# Altium integrated library Resistors.IntLib: 4954 symbols (part 19 of 32)
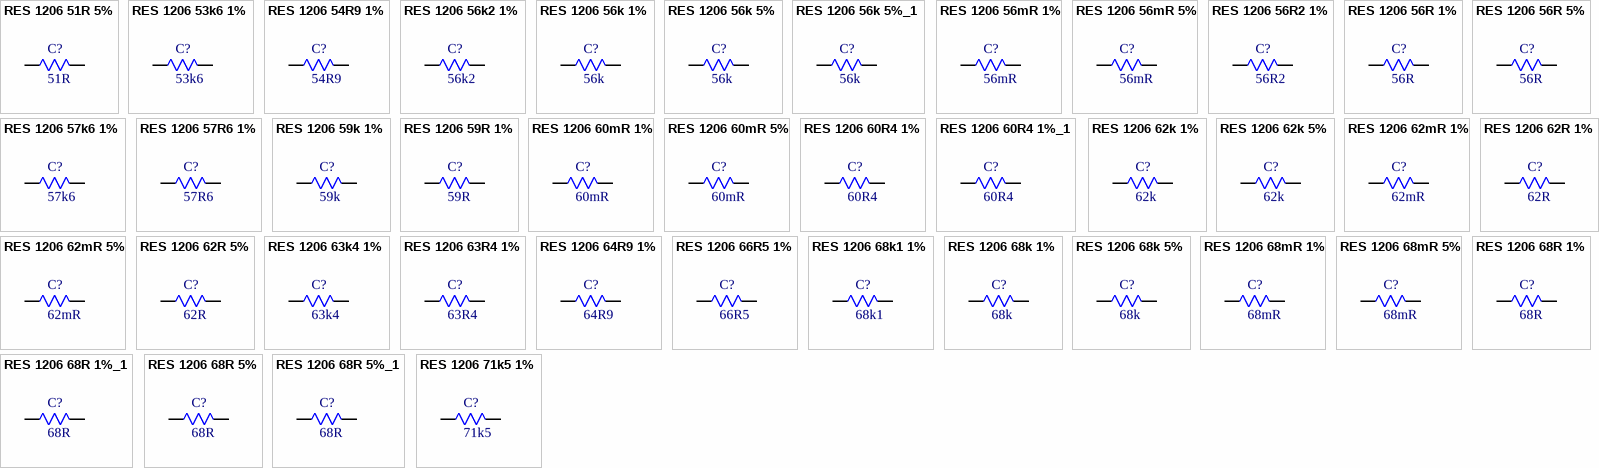
[diagram p141: symbols RES 1206 51R 5% to RES 1206 71k5 1%]

## RES 1206 68R 5%_1
designator C?, comment 68R
250mW 68R 200V Thick Film Resistor 100ppm/â„ƒ 5% 1206 Chip Resistor - Surface Mount RoHS; Manufacturer: FOJAN; Manufacturer Part Number: FRR1206J680 TS; Supplier: LCSC; Supplier Part Number: C49196854; Resistance: 68R; Tolerance: 5%; Voltage Rating: 200V; Power: 250mW
footprint RES SMD 1206
pins: 1, 2

## RES 1206 71k5 1%
designator C?, comment 71k5
71.5kR 1% 250mW 1206 Thick Film Resistor; Manufacturer: FOJAN; Manufacturer Part Number: FRC1206F7152TS; Voltage Rating: 200V; Supplier: LCSC; Supplier Part Number: C5126183; Resistance: 71k5; Tolerance: 1%; Power: 250mW
footprint RES SMD 1206
pins: 1, 2

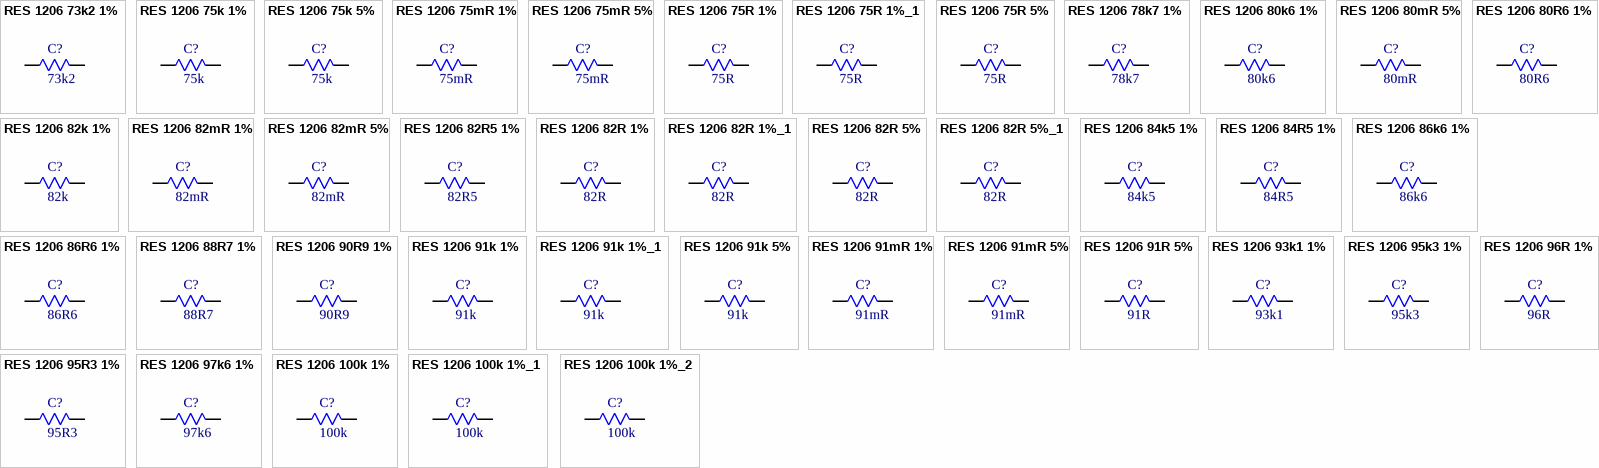
[diagram p72: symbols RES 1206 73k2 1% to RES 1206 100k 1%_2]

## RES 1206 73k2 1%
designator C?, comment 73k2
250mW 73.2kR 200V Thick Film Resistor 100ppm/â„ƒ 1% 1206 Chip Resistor - Surface Mount RoHS; Manufacturer: FOJAN; Manufacturer Part Number: FRC1206F7322TS; Supplier: LCSC; Supplier Part Number: C49196889; Resistance: 73k2; Tolerance: 1%; Voltage Rating: 200V; Power: 250mW
footprint RES SMD 1206
pins: 1, 2

## RES 1206 75k 1%
designator C?, comment 75k
75kR 1% 250mW 1206 Thick Film Resistor; Manufacturer: FOJAN; Manufacturer Part Number: FRC1206F7502TS; Voltage Rating: 200V; Supplier: LCSC; Supplier Part Number: C2933753; Resistance: 75k; Tolerance: 1%; Power: 250mW
footprint RES SMD 1206
pins: 1, 2

## RES 1206 75k 5%
designator C?, comment 75k
75kR 5% 250mW 1206 Thick Film Resistor; Manufacturer: FOJAN; Manufacturer Part Number: FRC1206J753TS; Voltage Rating: 200V; Supplier: LCSC; Supplier Part Number: C2930384; Resistance: 75k; Tolerance: 5%; Power: 250mW
footprint RES SMD 1206
pins: 1, 2

## RES 1206 75mR 1%
designator C?, comment 75mR
250mW 75mR Thick Film Resistor 600ppm/â„ƒ 1% 1206 Chip Resistor - Surface Mount RoHS; Manufacturer: FOJAN; Manufacturer Part Number: FRL1206FR075TS; Supplier: LCSC; Supplier Part Number: C7467621; Resistance: 75mR; Tolerance: 1%; Power: 250mW
footprint RES SMD 1206
pins: 1, 2

## RES 1206 75mR 5%
designator C?, comment 75mR
75mR 5% 250mW 1206 Thick Film Resistor; Manufacturer: FOJAN; Manufacturer Part Number: FRL1206JR075TS; Voltage Rating: 500V; Supplier: LCSC; Supplier Part Number: C3000701; Resistance: 75mR; Tolerance: 5%; Power: 250mW
footprint RES SMD 1206
pins: 1, 2

## RES 1206 75R 1%
designator C?, comment 75R
75R 1% 250mW 1206 Thick Film Resistor; Manufacturer: FOJAN; Manufacturer Part Number: FRC1206F75R0TS; Voltage Rating: 200V; Supplier: LCSC; Supplier Part Number: C2907393; Resistance: 75R; Tolerance: 1%; Power: 250mW
footprint RES SMD 1206
pins: 1, 2

## RES 1206 75R 1%_1
designator C?, comment 75R
75R 250mW 200V Thick Film Resistor 100ppm/â„ƒ 1% 1206 Chip Resistor - Surface Mount RoHS; Manufacturer: FOJAN; Manufacturer Part Number: FRQ1206F75R0TS; Supplier: LCSC; Supplier Part Number: C48533723; Resistance: 75R; Tolerance: 1%; Voltage Rating: 200V; Power: 250mW
footprint RES SMD 1206
pins: 1, 2

## RES 1206 75R 5%
designator C?, comment 75R
75R 5% 250mW 1206 Thick Film Resistor; Manufacturer: FOJAN; Manufacturer Part Number: FRC1206J750 TS; Voltage Rating: 200V; Supplier: LCSC; Supplier Part Number: C2907535; Resistance: 75R; Tolerance: 5%; Power: 250mW
footprint RES SMD 1206
pins: 1, 2

## RES 1206 78k7 1%
designator C?, comment 78k7
78.7kR 1% 250mW 1206 Thick Film Resistor; Manufacturer: FOJAN; Manufacturer Part Number: FRC1206F7872TS; Voltage Rating: 200V; Supplier: LCSC; Supplier Part Number: C2999558; Resistance: 78k7; Tolerance: 1%; Power: 250mW
footprint RES SMD 1206
pins: 1, 2

## RES 1206 80k6 1%
designator C?, comment 80k6
80.6kR 1% 250mW 1206 Thick Film Resistor; Manufacturer: FOJAN; Manufacturer Part Number: FRC1206F8062TS; Voltage Rating: 200V; Supplier: LCSC; Supplier Part Number: C3000534; Resistance: 80k6; Tolerance: 1%; Power: 250mW
footprint RES SMD 1206
pins: 1, 2

## RES 1206 80mR 5%
designator C?, comment 80mR
80mR 5% 250mW 1206 Thick Film Resistor; Manufacturer: FOJAN; Manufacturer Part Number: FRL1206JR080TS; Voltage Rating: 500V; Supplier: LCSC; Supplier Part Number: C5204045; Resistance: 80mR; Tolerance: 5%; Power: 250mW
footprint RES SMD 1206
pins: 1, 2

## RES 1206 80R6 1%
designator C?, comment 80R6
80.6R 1% 250mW 1206 Thick Film Resistor; Manufacturer: FOJAN; Manufacturer Part Number: FRC1206F80R6TS; Voltage Rating: 200V; Supplier: LCSC; Supplier Part Number: C5204024; Resistance: 80R6; Tolerance: 1%; Power: 250mW
footprint RES SMD 1206
pins: 1, 2

## RES 1206 82k 1%
designator C?, comment 82k
82kR 1% 250mW 1206 Thick Film Resistor; Manufacturer: FOJAN; Manufacturer Part Number: FRC1206F8202TS; Voltage Rating: 200V; Supplier: LCSC; Supplier Part Number: C2960747; Resistance: 82k; Tolerance: 1%; Power: 250mW
footprint RES SMD 1206
pins: 1, 2

## RES 1206 82mR 1%
designator C?, comment 82mR
82mR 250mW Thick Film Resistor 600ppm/â„ƒ 1% 1206 Chip Resistor - Surface Mount RoHS; Manufacturer: FOJAN; Manufacturer Part Number: FRL1206FR082TS; Supplier: LCSC; Supplier Part Number: C7467646; Resistance: 82mR; Tolerance: 1%; Power: 250mW
footprint RES SMD 1206
pins: 1, 2

## RES 1206 82mR 5%
designator C?, comment 82mR
82mR 5% 250mW 1206 Thick Film Resistor; Manufacturer: FOJAN; Manufacturer Part Number: FRL1206JR082TS; Voltage Rating: 500V; Supplier: LCSC; Supplier Part Number: C2960700; Resistance: 82mR; Tolerance: 5%; Power: 250mW
footprint RES SMD 1206
pins: 1, 2

## RES 1206 82R5 1%
designator C?, comment 82R5
82.5R 1% 250mW 1206 Thick Film Resistor; Manufacturer: FOJAN; Manufacturer Part Number: FRC1206F82R5TS; Voltage Rating: 200V; Supplier: LCSC; Supplier Part Number: C2999497; Resistance: 82R5; Tolerance: 1%; Power: 250mW
footprint RES SMD 1206
pins: 1, 2

## RES 1206 82R 1%
designator C?, comment 82R
82R 1% 500mW 1206 Thick Film Resistor; Manufacturer: FOJAN; Manufacturer Part Number: FRP1206F82R0TS; Voltage Rating: 200V; Supplier: LCSC; Supplier Part Number: C5713421; Resistance: 82R; Tolerance: 1%; Power: 500mW
footprint RES SMD 1206
pins: 1, 2

## RES 1206 82R 1%_1
designator C?, comment 82R
82R 1% 250mW 1206 Thick Film Resistor; Manufacturer: FOJAN; Manufacturer Part Number: FRC1206F82R0TS; Voltage Rating: 200V; Supplier: LCSC; Supplier Part Number: C2933761; Resistance: 82R; Tolerance: 1%; Power: 250mW
footprint RES SMD 1206
pins: 1, 2

## RES 1206 82R 5%
designator C?, comment 82R
82R 5% 250mW 1206 Thick Film Resistor; Manufacturer: FOJAN; Manufacturer Part Number: FRC1206J820 TS; Voltage Rating: 200V; Supplier: LCSC; Supplier Part Number: C2907540; Resistance: 82R; Tolerance: 5%; Power: 250mW
footprint RES SMD 1206
pins: 1, 2

## RES 1206 82R 5%_1
designator C?, comment 82R
82R 5% 250mW 1206 Thick Film Resistor; Manufacturer: FOJAN; Manufacturer Part Number: FRD1206J820TS; Voltage Rating: 200V; Supplier: LCSC; Supplier Part Number: C2930387; Resistance: 82R; Tolerance: 5%; Power: 250mW
footprint RES SMD 1206
pins: 1, 2

## RES 1206 84k5 1%
designator C?, comment 84k5
84.5kR 1% 250mW 1206 Thick Film Resistor; Manufacturer: FOJAN; Manufacturer Part Number: FRC1206F8452TS; Voltage Rating: 200V; Supplier: LCSC; Supplier Part Number: C42372185; Resistance: 84k5; Tolerance: 1%; Power: 250mW
footprint RES SMD 1206
pins: 1, 2

## RES 1206 84R5 1%
designator C?, comment 84R5
84.5R 1% 250mW 1206 Thick Film Resistor; Manufacturer: FOJAN; Manufacturer Part Number: FRC1206F84R5TS; Voltage Rating: 200V; Supplier: LCSC; Supplier Part Number: C2933762; Resistance: 84R5; Tolerance: 1%; Power: 250mW
footprint RES SMD 1206
pins: 1, 2

## RES 1206 86k6 1%
designator C?, comment 86k6
86.6kR 1% 250mW 1206 Thick Film Resistor; Manufacturer: FOJAN; Manufacturer Part Number: FRC1206F8662TS; Voltage Rating: 200V; Supplier: LCSC; Supplier Part Number: C2933763; Resistance: 86k6; Tolerance: 1%; Power: 250mW
footprint RES SMD 1206
pins: 1, 2

## RES 1206 86R6 1%
designator C?, comment 86R6
86.6R 1% 250mW 1206 Thick Film Resistor; Manufacturer: FOJAN; Manufacturer Part Number: FRC1206F86R6TS; Voltage Rating: 200V; Supplier: LCSC; Supplier Part Number: C5126111; Resistance: 86R6; Tolerance: 1%; Power: 250mW
footprint RES SMD 1206
pins: 1, 2

## RES 1206 88R7 1%
designator C?, comment 88R7
88.7R 1% 250mW 1206 Thick Film Resistor; Manufacturer: FOJAN; Manufacturer Part Number: FRC1206F88R7TS; Voltage Rating: 200V; Supplier: LCSC; Supplier Part Number: C3000535; Resistance: 88R7; Tolerance: 1%; Power: 250mW
footprint RES SMD 1206
pins: 1, 2

## RES 1206 90R9 1%
designator C?, comment 90R9
90.9R 1% 250mW 1206 Thick Film Resistor; Manufacturer: FOJAN; Manufacturer Part Number: FRC1206F90R9TS; Voltage Rating: 200V; Supplier: LCSC; Supplier Part Number: C3000537; Resistance: 90R9; Tolerance: 1%; Power: 250mW
footprint RES SMD 1206
pins: 1, 2

## RES 1206 91k 1%
designator C?, comment 91k
91kR 1% 250mW 1206 Thick Film Resistor; Manufacturer: FOJAN; Manufacturer Part Number: FRC1206F9102TS; Voltage Rating: 200V; Supplier: LCSC; Supplier Part Number: C2933767; Resistance: 91k; Tolerance: 1%; Power: 250mW
footprint RES SMD 1206
pins: 1, 2

## RES 1206 91k 1%_1
designator C?, comment 91k
91kR 500mW 200V Thick Film Resistor 1% 1206 Chip Resistor - Surface Mount RoHS; Manufacturer: FOJAN; Manufacturer Part Number: FRP1206F9102TS; Supplier: LCSC; Supplier Part Number: C51048268; Resistance: 91k; Tolerance: 1%; Voltage Rating: 200V; Power: 500mW
footprint RES SMD 1206
pins: 1, 2

## RES 1206 91k 5%
designator C?, comment 91k
91kR 5% 250mW 1206 Thick Film Resistor; Manufacturer: FOJAN; Manufacturer Part Number: FRC1206J913 TS; Voltage Rating: 200V; Supplier: LCSC; Supplier Part Number: C2933797; Resistance: 91k; Tolerance: 5%; Power: 250mW
footprint RES SMD 1206
pins: 1, 2

## RES 1206 91mR 1%
designator C?, comment 91mR
91mR 1% 250mW 1206 Thick Film Resistor; Manufacturer: FOJAN; Manufacturer Part Number: FRL1206FR091TS; Voltage Rating: 500V; Supplier: LCSC; Supplier Part Number: C5159740; Resistance: 91mR; Tolerance: 1%; Power: 250mW
footprint RES SMD 1206
pins: 1, 2

## RES 1206 91mR 5%
designator C?, comment 91mR
91mR 5% 250mW 1206 Thick Film Resistor; Manufacturer: FOJAN; Manufacturer Part Number: FRL1206JR091TS; Voltage Rating: 500V; Supplier: LCSC; Supplier Part Number: C5126177; Resistance: 91mR; Tolerance: 5%; Power: 250mW
footprint RES SMD 1206
pins: 1, 2

## RES 1206 91R 5%
designator C?, comment 91R
500mW 91R Thick Film Resistor 200ppm/â„ƒ 5% 1206 Chip Resistor - Surface Mount RoHS; Manufacturer: FOJAN; Manufacturer Part Number: FRP1206J910 TS; Supplier: LCSC; Supplier Part Number: C7468227; Resistance: 91R; Tolerance: 5%; Power: 500mW
footprint RES SMD 1206
pins: 1, 2

## RES 1206 93k1 1%
designator C?, comment 93k1
93.1kR 1% 250mW 1206 Thick Film Resistor; Manufacturer: FOJAN; Manufacturer Part Number: FRC1206F9312TS; Voltage Rating: 200V; Supplier: LCSC; Supplier Part Number: C5713332; Resistance: 93k1; Tolerance: 1%; Power: 250mW
footprint RES SMD 1206
pins: 1, 2

## RES 1206 95k3 1%
designator C?, comment 95k3
95.3kR 1% 250mW 1206 Thick Film Resistor; Manufacturer: FOJAN; Manufacturer Part Number: FRC1206F9532TS; Voltage Rating: 200V; Supplier: LCSC; Supplier Part Number: C5153995; Resistance: 95k3; Tolerance: 1%; Power: 250mW
footprint RES SMD 1206
pins: 1, 2

## RES 1206 95R3 1%
designator C?, comment 95R3
95.3R 1% 250mW 1206 Thick Film Resistor; Manufacturer: FOJAN; Manufacturer Part Number: FRC1206F95R3TS; Voltage Rating: 200V; Supplier: LCSC; Supplier Part Number: C5126229; Resistance: 95R3; Tolerance: 1%; Power: 250mW
footprint RES SMD 1206
pins: 1, 2

## RES 1206 96R 1%
designator C?, comment 96R
96R 250mW Thick Film Resistor 1% 1206 Chip Resistor - Surface Mount RoHS; Manufacturer: FOJAN; Manufacturer Part Number: FRL1206FR960TS; Supplier: LCSC; Supplier Part Number: C52033538; Resistance: 96R; Tolerance: 1%; Power: 250mW
footprint RES SMD 1206
pins: 1, 2

## RES 1206 97k6 1%
designator C?, comment 97k6
97.6kR 1% 250mW 1206 Thick Film Resistor; Manufacturer: FOJAN; Manufacturer Part Number: FRC1206F9762TS; Voltage Rating: 200V; Supplier: LCSC; Supplier Part Number: C2933770; Resistance: 97k6; Tolerance: 1%; Power: 250mW
footprint RES SMD 1206
pins: 1, 2

## RES 1206 100k 1%
designator C?, comment 100k
100kR 1% 250mW 1206 Thick Film Resistor; Manufacturer: FOJAN; Manufacturer Part Number: FRC1206F1003TS; Voltage Rating: 200V; Supplier: LCSC; Supplier Part Number: C2907368; Resistance: 100k; Tolerance: 1%; Power: 250mW
footprint RES SMD 1206
pins: 1, 2

## RES 1206 100k 1%_1
designator C?, comment 100k
500mW 100kR Thick Film Resistor 200ppm/â„ƒ 1% 1206 Chip Resistor - Surface Mount RoHS; Manufacturer: FOJAN; Manufacturer Part Number: FRP1206F1003TS; Supplier: LCSC; Supplier Part Number: C7468229; Resistance: 100k; Tolerance: 1%; Power: 500mW
footprint RES SMD 1206
pins: 1, 2

## RES 1206 100k 1%_2
designator C?, comment 100k
250mW 100kR 200V Thick Film Resistor 100ppm/â„ƒ 1% 1206 Chip Resistor - Surface Mount RoHS; Manufacturer: FOJAN; Manufacturer Part Number: FRQ1206F1003TS; Supplier: LCSC; Supplier Part Number: C18222279; Resistance: 100k; Tolerance: 1%; Voltage Rating: 200V; Power: 250mW
footprint RES SMD 1206
pins: 1, 2

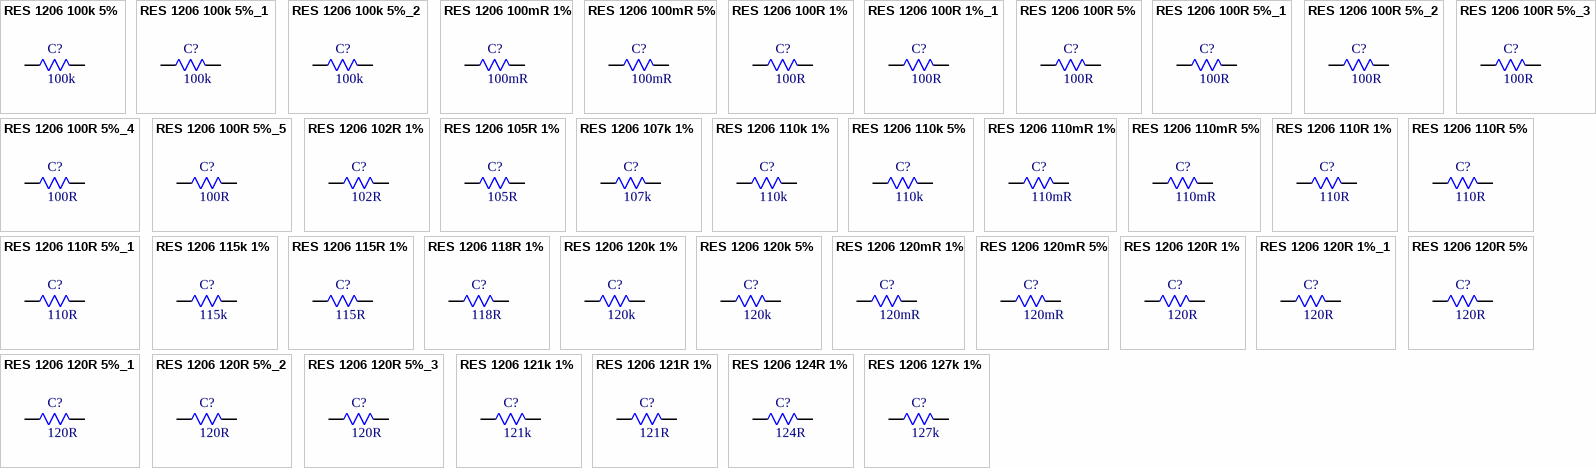
[diagram p73: symbols RES 1206 100k 5% to RES 1206 127k 1%]

## RES 1206 100k 5%
designator C?, comment 100k
100kR 5% 250mW 1206 Thick Film Resistor; Manufacturer: FOJAN; Manufacturer Part Number: FRC1206J104 TS; Voltage Rating: 200V; Supplier: LCSC; Supplier Part Number: C2907421; Resistance: 100k; Tolerance: 5%; Power: 250mW
footprint RES SMD 1206
pins: 1, 2

## RES 1206 100k 5%_1
designator C?, comment 100k
500mW 100kR 200V Thick Film Resistor 5% 200ppm/â„ƒ 1206 Chip Resistor - Surface Mount RoHS; Manufacturer: FOJAN; Manufacturer Part Number: FRP1206J104 TS; Supplier: LCSC; Supplier Part Number: C48533775; Resistance: 100k; Tolerance: 5%; Voltage Rating: 200V; Power: 500mW
footprint RES SMD 1206
pins: 1, 2

## RES 1206 100k 5%_2
designator C?, comment 100k
250mW 100kR 200V Thick Film Resistor 100ppm/â„ƒ 5% 1206 Chip Resistor - Surface Mount RoHS; Manufacturer: FOJAN; Manufacturer Part Number: FRR1206J104 TS; Supplier: LCSC; Supplier Part Number: C49196842; Resistance: 100k; Tolerance: 5%; Voltage Rating: 200V; Power: 250mW
footprint RES SMD 1206
pins: 1, 2

## RES 1206 100mR 1%
designator C?, comment 100mR
100mR 1% 250mW 1206 Thick Film Resistor; Manufacturer: FOJAN; Manufacturer Part Number: FRL1206FR100TS; Voltage Rating: 500V; Supplier: LCSC; Supplier Part Number: C2934287; Resistance: 100mR; Tolerance: 1%; Power: 250mW
footprint RES SMD 1206
pins: 1, 2

## RES 1206 100mR 5%
designator C?, comment 100mR
100mR 5% 250mW 1206 Thick Film Resistor; Manufacturer: FOJAN; Manufacturer Part Number: FRL1206JR100TS; Voltage Rating: 500V; Supplier: LCSC; Supplier Part Number: C2907394; Resistance: 100mR; Tolerance: 5%; Power: 250mW
footprint RES SMD 1206
pins: 1, 2

## RES 1206 100R 1%
designator C?, comment 100R
100R 1% 250mW 1206 Thick Film Resistor; Manufacturer: FOJAN; Manufacturer Part Number: FRC1206F1000TS; Voltage Rating: 200V; Supplier: LCSC; Supplier Part Number: C2907369; Resistance: 100R; Tolerance: 1%; Power: 250mW
footprint RES SMD 1206
pins: 1, 2

## RES 1206 100R 1%_1
designator C?, comment 100R
100R 1% 500mW 1206 Thick Film Resistor; Manufacturer: FOJAN; Manufacturer Part Number: FRP1206F1000TS; Voltage Rating: 200V; Supplier: LCSC; Supplier Part Number: C5713416; Resistance: 100R; Tolerance: 1%; Power: 500mW
footprint RES SMD 1206
pins: 1, 2

## RES 1206 100R 5%
designator C?, comment 100R
100R 5% 500mW 1206 Thick Film Resistor; Manufacturer: FOJAN; Manufacturer Part Number: FRP1206J101 TS; Voltage Rating: 200V; Supplier: LCSC; Supplier Part Number: C3013376; Resistance: 100R; Tolerance: 5%; Power: 500mW
footprint RES SMD 1206
pins: 1, 2

## RES 1206 100R 5%_1
designator C?, comment 100R
100R Thick Film Resistor 100ppm/â„ƒ 5% 1206 Chip Resistor - Surface Mount RoHS; Manufacturer: FOJAN; Manufacturer Part Number: FRS1206J101 TS; Supplier: LCSC; Supplier Part Number: C2934406; Resistance: 100R; Tolerance: 5%
footprint RES SMD 1206
pins: 1, 2

## RES 1206 100R 5%_2
designator C?, comment 100R
250mW 100R 200V Thick Film Resistor 100ppm/â„ƒ 5% 1206 Chip Resistor - Surface Mount RoHS; Manufacturer: FOJAN; Manufacturer Part Number: FRR1206J101 TS; Supplier: LCSC; Supplier Part Number: C49196843; Resistance: 100R; Tolerance: 5%; Voltage Rating: 200V; Power: 250mW
footprint RES SMD 1206
pins: 1, 2

## RES 1206 100R 5%_3
designator C?, comment 100R
100R 5% 250mW 1206 Thick Film Resistor; Manufacturer: FOJAN; Manufacturer Part Number: FRC1206J101 TS; Voltage Rating: 200V; Supplier: LCSC; Supplier Part Number: C2907422; Resistance: 100R; Tolerance: 5%; Power: 250mW
footprint RES SMD 1206
pins: 1, 2

## RES 1206 100R 5%_4
designator C?, comment 100R
100R 5% 250mW 1206 Thick Film Resistor; Manufacturer: FOJAN; Manufacturer Part Number: FRD1206J101 TS; Voltage Rating: 200V; Supplier: LCSC; Supplier Part Number: C2934192; Resistance: 100R; Tolerance: 5%; Power: 250mW
footprint RES SMD 1206
pins: 1, 2

## RES 1206 100R 5%_5
designator C?, comment 100R
250mW 100R Thick Film Resistor 5% 100ppm/â„ƒ 1206 Chip Resistor - Surface Mount RoHS; Manufacturer: FOJAN; Manufacturer Part Number: FRQ1206J101 TS; Supplier: LCSC; Supplier Part Number: C7468449; Resistance: 100R; Tolerance: 5%; Power: 250mW
footprint RES SMD 1206
pins: 1, 2

## RES 1206 102R 1%
designator C?, comment 102R
102R 1% 250mW 1206 Thick Film Resistor; Manufacturer: FOJAN; Manufacturer Part Number: FRC1206F1020TS; Voltage Rating: 200V; Supplier: LCSC; Supplier Part Number: C2933577; Resistance: 102R; Tolerance: 1%; Power: 250mW
footprint RES SMD 1206
pins: 1, 2

## RES 1206 105R 1%
designator C?, comment 105R
105R 1% 250mW 1206 Thick Film Resistor; Manufacturer: FOJAN; Manufacturer Part Number: FRC1206F1050TS; Voltage Rating: 200V; Supplier: LCSC; Supplier Part Number: C2974041; Resistance: 105R; Tolerance: 1%; Power: 250mW
footprint RES SMD 1206
pins: 1, 2

## RES 1206 107k 1%
designator C?, comment 107k
107kR 250mW 200V Thick Film Resistor 1% 100ppm/â„ƒ 1206 Chip Resistor - Surface Mount RoHS; Manufacturer: FOJAN; Manufacturer Part Number: FRC1206F1073TS; Supplier: LCSC; Supplier Part Number: C7467452; Resistance: 107k; Tolerance: 1%; Voltage Rating: 200V; Power: 250mW
footprint RES SMD 1206
pins: 1, 2

## RES 1206 110k 1%
designator C?, comment 110k
110kR 1% 250mW 1206 Thick Film Resistor; Manufacturer: FOJAN; Manufacturer Part Number: FRC1206F1103TS; Voltage Rating: 200V; Supplier: LCSC; Supplier Part Number: C2933582; Resistance: 110k; Tolerance: 1%; Power: 250mW
footprint RES SMD 1206
pins: 1, 2

## RES 1206 110k 5%
designator C?, comment 110k
110kR 5% 250mW 1206 Thick Film Resistor; Manufacturer: FOJAN; Manufacturer Part Number: FRC1206J114 TS; Voltage Rating: 200V; Supplier: LCSC; Supplier Part Number: C2933778; Resistance: 110k; Tolerance: 5%; Power: 250mW
footprint RES SMD 1206
pins: 1, 2

## RES 1206 110mR 1%
designator C?, comment 110mR
110mR 1% 250mW 1206 Thick Film Resistor; Manufacturer: FOJAN; Manufacturer Part Number: FRL1206FR110TS; Voltage Rating: 500V; Supplier: LCSC; Supplier Part Number: C2934288; Resistance: 110mR; Tolerance: 1%; Power: 250mW
footprint RES SMD 1206
pins: 1, 2

## RES 1206 110mR 5%
designator C?, comment 110mR
110mR 5% 250mW 1206 Thick Film Resistor; Manufacturer: FOJAN; Manufacturer Part Number: FRL1206JR110TS; Voltage Rating: 500V; Supplier: LCSC; Supplier Part Number: C2934297; Resistance: 110mR; Tolerance: 5%; Power: 250mW
footprint RES SMD 1206
pins: 1, 2

## RES 1206 110R 1%
designator C?, comment 110R
110R 1% 250mW 1206 Thick Film Resistor; Manufacturer: FOJAN; Manufacturer Part Number: FRC1206F1100TS; Voltage Rating: 200V; Supplier: LCSC; Supplier Part Number: C2933579; Resistance: 110R; Tolerance: 1%; Power: 250mW
footprint RES SMD 1206
pins: 1, 2

## RES 1206 110R 5%
designator C?, comment 110R
110R 5% 250mW 1206 Thick Film Resistor; Manufacturer: FOJAN; Manufacturer Part Number: FRC1206J111TSD; Voltage Rating: 200V; Supplier: LCSC; Supplier Part Number: C2930344; Resistance: 110R; Tolerance: 5%; Power: 250mW
footprint RES SMD 1206
pins: 1, 2

## RES 1206 110R 5%_1
designator C?, comment 110R
110R 5% 250mW 1206 Thick Film Resistor; Manufacturer: FOJAN; Manufacturer Part Number: FRC1206J111 TS; Voltage Rating: 200V; Supplier: LCSC; Supplier Part Number: C2933775; Resistance: 110R; Tolerance: 5%; Power: 250mW
footprint RES SMD 1206
pins: 1, 2

## RES 1206 115k 1%
designator C?, comment 115k
115kR 1% 250mW 1206 Thick Film Resistor; Manufacturer: FOJAN; Manufacturer Part Number: FRC1206F1153TS; Voltage Rating: 200V; Supplier: LCSC; Supplier Part Number: C3000740; Resistance: 115k; Tolerance: 1%; Power: 250mW
footprint RES SMD 1206
pins: 1, 2

## RES 1206 115R 1%
designator C?, comment 115R
115R 1% 250mW 1206 Thick Film Resistor; Manufacturer: FOJAN; Manufacturer Part Number: FRC1206F1150TS; Voltage Rating: 200V; Supplier: LCSC; Supplier Part Number: C3000741; Resistance: 115R; Tolerance: 1%; Power: 250mW
footprint RES SMD 1206
pins: 1, 2

## RES 1206 118R 1%
designator C?, comment 118R
118R 1% 250mW 1206 Thick Film Resistor; Manufacturer: FOJAN; Manufacturer Part Number: FRC1206F1180TS; Voltage Rating: 200V; Supplier: LCSC; Supplier Part Number: C2999548; Resistance: 118R; Tolerance: 1%; Power: 250mW
footprint RES SMD 1206
pins: 1, 2

## RES 1206 120k 1%
designator C?, comment 120k
120kR 1% 250mW 1206 Thick Film Resistor; Manufacturer: FOJAN; Manufacturer Part Number: FRC1206F1203TS; Voltage Rating: 200V; Supplier: LCSC; Supplier Part Number: C2933586; Resistance: 120k; Tolerance: 1%; Power: 250mW
footprint RES SMD 1206
pins: 1, 2

## RES 1206 120k 5%
designator C?, comment 120k
120kR 5% 250mW 1206 Thick Film Resistor; Manufacturer: FOJAN; Manufacturer Part Number: FRC1206J124 TS; Voltage Rating: 200V; Supplier: LCSC; Supplier Part Number: C2907425; Resistance: 120k; Tolerance: 5%; Power: 250mW
footprint RES SMD 1206
pins: 1, 2

## RES 1206 120mR 1%
designator C?, comment 120mR
120mR 1% 250mW 1206 Thick Film Resistor; Manufacturer: FOJAN; Manufacturer Part Number: FRL1206FR120TS; Voltage Rating: 500V; Supplier: LCSC; Supplier Part Number: C2907346; Resistance: 120mR; Tolerance: 1%; Power: 250mW
footprint RES SMD 1206
pins: 1, 2

## RES 1206 120mR 5%
designator C?, comment 120mR
120mR 5% 250mW 1206 Thick Film Resistor; Manufacturer: FOJAN; Manufacturer Part Number: FRL1206JR120TS; Voltage Rating: 500V; Supplier: LCSC; Supplier Part Number: C2974118; Resistance: 120mR; Tolerance: 5%; Power: 250mW
footprint RES SMD 1206
pins: 1, 2

## RES 1206 120R 1%
designator C?, comment 120R
120R 1% 250mW 1206 Thick Film Resistor; Manufacturer: FOJAN; Manufacturer Part Number: FRC1206F1200TS; Voltage Rating: 200V; Supplier: LCSC; Supplier Part Number: C2933584; Resistance: 120R; Tolerance: 1%; Power: 250mW
footprint RES SMD 1206
pins: 1, 2

## RES 1206 120R 1%_1
designator C?, comment 120R
120R 1% 500mW 1206 Thick Film Resistor; Manufacturer: FOJAN; Manufacturer Part Number: FRP1206F1200TS; Voltage Rating: 200V; Supplier: LCSC; Supplier Part Number: C5713417; Resistance: 120R; Tolerance: 1%; Power: 500mW
footprint RES SMD 1206
pins: 1, 2

## RES 1206 120R 5%
designator C?, comment 120R
120R 5% 250mW 1206 Thick Film Resistor; Manufacturer: FOJAN; Manufacturer Part Number: FRC1206J121 TS; Voltage Rating: 200V; Supplier: LCSC; Supplier Part Number: C2907426; Resistance: 120R; Tolerance: 5%; Power: 250mW
footprint RES SMD 1206
pins: 1, 2

## RES 1206 120R 5%_1
designator C?, comment 120R
120R 5% 250mW 1206 Thick Film Resistor; Manufacturer: FOJAN; Manufacturer Part Number: FRD1206J121 TS; Voltage Rating: 200V; Supplier: LCSC; Supplier Part Number: C2934196; Resistance: 120R; Tolerance: 5%; Power: 250mW
footprint RES SMD 1206
pins: 1, 2

## RES 1206 120R 5%_2
designator C?, comment 120R
250mW 120R 200V Thick Film Resistor 100ppm/â„ƒ 5% 1206 Chip Resistor - Surface Mount RoHS; Manufacturer: FOJAN; Manufacturer Part Number: FRR1206J121 TS; Supplier: LCSC; Supplier Part Number: C49196845; Resistance: 120R; Tolerance: 5%; Voltage Rating: 200V; Power: 250mW
footprint RES SMD 1206
pins: 1, 2

## RES 1206 120R 5%_3
designator C?, comment 120R
250mW 120R Thick Film Resistor 5% 200ppm/â„ƒ 1206 Chip Resistor - Surface Mount RoHS; Manufacturer: FOJAN; Manufacturer Part Number: FRV1206J121 TS; Supplier: LCSC; Supplier Part Number: C22375088; Resistance: 120R; Tolerance: 5%; Power: 250mW
footprint RES SMD 1206
pins: 1, 2

## RES 1206 121k 1%
designator C?, comment 121k
121kR 1% 500mW 1206 Thick Film Resistor; Manufacturer: FOJAN; Manufacturer Part Number: FRP1206F1213TS; Voltage Rating: 200V; Supplier: LCSC; Supplier Part Number: C3013372; Resistance: 121k; Tolerance: 1%; Power: 500mW
footprint RES SMD 1206
pins: 1, 2

## RES 1206 121R 1%
designator C?, comment 121R
121R 1% 250mW 1206 Thick Film Resistor; Manufacturer: FOJAN; Manufacturer Part Number: FRC1206F1210TS; Voltage Rating: 200V; Supplier: LCSC; Supplier Part Number: C5126036; Resistance: 121R; Tolerance: 1%; Power: 250mW
footprint RES SMD 1206
pins: 1, 2

## RES 1206 124R 1%
designator C?, comment 124R
124R 1% 250mW 1206 Thick Film Resistor; Manufacturer: FOJAN; Manufacturer Part Number: FRC1206F1240TS; Voltage Rating: 200V; Supplier: LCSC; Supplier Part Number: C5159729; Resistance: 124R; Tolerance: 1%; Power: 250mW
footprint RES SMD 1206
pins: 1, 2

## RES 1206 127k 1%
designator C?, comment 127k
127kR 1% 250mW 1206 Thick Film Resistor; Manufacturer: FOJAN; Manufacturer Part Number: FRC1206F1273TS; Voltage Rating: 200V; Supplier: LCSC; Supplier Part Number: C3000742; Resistance: 127k; Tolerance: 1%; Power: 250mW
footprint RES SMD 1206
pins: 1, 2

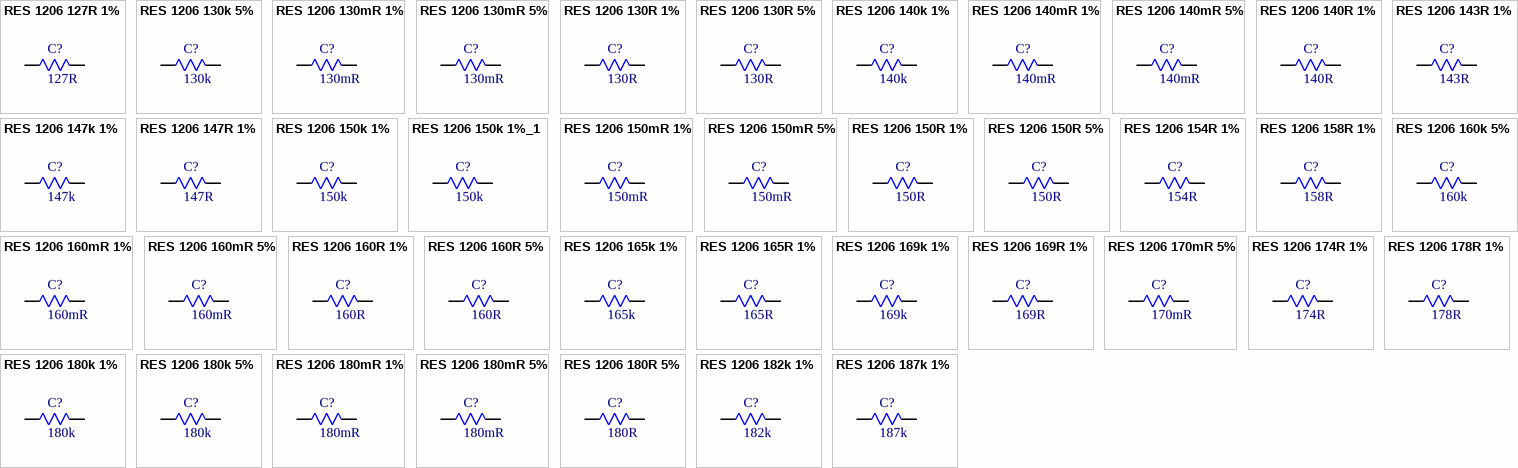
[diagram p74: symbols RES 1206 127R 1% to RES 1206 187k 1%]

## RES 1206 127R 1%
designator C?, comment 127R
127R 1% 250mW 1206 Thick Film Resistor; Manufacturer: FOJAN; Manufacturer Part Number: FRC1206F1270TS; Voltage Rating: 200V; Supplier: LCSC; Supplier Part Number: C2933588; Resistance: 127R; Tolerance: 1%; Power: 250mW
footprint RES SMD 1206
pins: 1, 2

## RES 1206 130k 5%
designator C?, comment 130k
130kR 5% 250mW 1206 Thick Film Resistor; Manufacturer: FOJAN; Manufacturer Part Number: FRC1206J134TS; Voltage Rating: 200V; Supplier: LCSC; Supplier Part Number: C2930347; Resistance: 130k; Tolerance: 5%; Power: 250mW
footprint RES SMD 1206
pins: 1, 2

## RES 1206 130mR 1%
designator C?, comment 130mR
130mR 1% 250mW 1206 Thick Film Resistor; Manufacturer: FOJAN; Manufacturer Part Number: FRL1206FR130TS; Voltage Rating: 500V; Supplier: LCSC; Supplier Part Number: C2907347; Resistance: 130mR; Tolerance: 1%; Power: 250mW
footprint RES SMD 1206
pins: 1, 2

## RES 1206 130mR 5%
designator C?, comment 130mR
130mR 5% 250mW 1206 Thick Film Resistor; Manufacturer: FOJAN; Manufacturer Part Number: FRL1206JR130TS; Voltage Rating: 500V; Supplier: LCSC; Supplier Part Number: C2934298; Resistance: 130mR; Tolerance: 5%; Power: 250mW
footprint RES SMD 1206
pins: 1, 2

## RES 1206 130R 1%
designator C?, comment 130R
130R 1% 250mW 1206 Thick Film Resistor; Manufacturer: FOJAN; Manufacturer Part Number: FRC1206F1300TS; Voltage Rating: 200V; Supplier: LCSC; Supplier Part Number: C2933591; Resistance: 130R; Tolerance: 1%; Power: 250mW
footprint RES SMD 1206
pins: 1, 2

## RES 1206 130R 5%
designator C?, comment 130R
130R 5% 250mW 1206 Thick Film Resistor; Manufacturer: FOJAN; Manufacturer Part Number: FRC1206J131 TS; Voltage Rating: 200V; Supplier: LCSC; Supplier Part Number: C2933781; Resistance: 130R; Tolerance: 5%; Power: 250mW
footprint RES SMD 1206
pins: 1, 2

## RES 1206 140k 1%
designator C?, comment 140k
140kR 1% 250mW 1206 Thick Film Resistor; Manufacturer: FOJAN; Manufacturer Part Number: FRC1206F1403TS; Voltage Rating: 200V; Supplier: LCSC; Supplier Part Number: C2974042; Resistance: 140k; Tolerance: 1%; Power: 250mW
footprint RES SMD 1206
pins: 1, 2

## RES 1206 140mR 1%
designator C?, comment 140mR
140mR 1% 250mW 1206 Thick Film Resistor; Manufacturer: FOJAN; Manufacturer Part Number: FRL1206FR140TS; Voltage Rating: 500V; Supplier: LCSC; Supplier Part Number: C2934289; Resistance: 140mR; Tolerance: 1%; Power: 250mW
footprint RES SMD 1206
pins: 1, 2

## RES 1206 140mR 5%
designator C?, comment 140mR
140mR 5% 250mW 1206 Thick Film Resistor; Manufacturer: FOJAN; Manufacturer Part Number: FRL1206JR140TS; Voltage Rating: 500V; Supplier: LCSC; Supplier Part Number: C2960877; Resistance: 140mR; Tolerance: 5%; Power: 250mW
footprint RES SMD 1206
pins: 1, 2

## RES 1206 140R 1%
designator C?, comment 140R
140R 1% 250mW 1206 Thick Film Resistor; Manufacturer: FOJAN; Manufacturer Part Number: FRC1206F1400TS; Voltage Rating: 200V; Supplier: LCSC; Supplier Part Number: C3013240; Resistance: 140R; Tolerance: 1%; Power: 250mW
footprint RES SMD 1206
pins: 1, 2

## RES 1206 143R 1%
designator C?, comment 143R
143R 1% 250mW 1206 Thick Film Resistor; Manufacturer: FOJAN; Manufacturer Part Number: FRC1206F1430TS; Voltage Rating: 200V; Supplier: LCSC; Supplier Part Number: C3000558; Resistance: 143R; Tolerance: 1%; Power: 250mW
footprint RES SMD 1206
pins: 1, 2

## RES 1206 147k 1%
designator C?, comment 147k
147kR 1% 250mW 1206 Thick Film Resistor; Manufacturer: FOJAN; Manufacturer Part Number: FRC1206F1473TS; Voltage Rating: 200V; Supplier: LCSC; Supplier Part Number: C5159731; Resistance: 147k; Tolerance: 1%; Power: 250mW
footprint RES SMD 1206
pins: 1, 2

## RES 1206 147R 1%
designator C?, comment 147R
147R 1% 250mW 1206 Thick Film Resistor; Manufacturer: FOJAN; Manufacturer Part Number: FRC1206F1470TS; Voltage Rating: 200V; Supplier: LCSC; Supplier Part Number: C42372173; Resistance: 147R; Tolerance: 1%; Power: 250mW
footprint RES SMD 1206
pins: 1, 2

## RES 1206 150k 1%
designator C?, comment 150k
150kR 1% 250mW 1206 Thick Film Resistor; Manufacturer: FOJAN; Manufacturer Part Number: FRC1206F1503TS; Voltage Rating: 200V; Supplier: LCSC; Supplier Part Number: C2933599; Resistance: 150k; Tolerance: 1%; Power: 250mW
footprint RES SMD 1206
pins: 1, 2

## RES 1206 150k 1%_1
designator C?, comment 150k
250mW 150kR 200V Thick Film Resistor 100ppm/â„ƒ 1% 1206 Chip Resistor - Surface Mount RoHS; Manufacturer: FOJAN; Manufacturer Part Number: FRQ1206F1503TS; Supplier: LCSC; Supplier Part Number: C48533693; Resistance: 150k; Tolerance: 1%; Voltage Rating: 200V; Power: 250mW
footprint RES SMD 1206
pins: 1, 2

## RES 1206 150mR 1%
designator C?, comment 150mR
150mR 1% 250mW 1206 Thick Film Resistor; Manufacturer: FOJAN; Manufacturer Part Number: FRL1206FR150TS; Voltage Rating: 500V; Supplier: LCSC; Supplier Part Number: C2907348; Resistance: 150mR; Tolerance: 1%; Power: 250mW
footprint RES SMD 1206
pins: 1, 2

## RES 1206 150mR 5%
designator C?, comment 150mR
150mR 5% 250mW 1206 Thick Film Resistor; Manufacturer: FOJAN; Manufacturer Part Number: FRL1206JR150TS; Voltage Rating: 500V; Supplier: LCSC; Supplier Part Number: C2930436; Resistance: 150mR; Tolerance: 5%; Power: 250mW
footprint RES SMD 1206
pins: 1, 2

## RES 1206 150R 1%
designator C?, comment 150R
150R 1% 250mW 1206 Thick Film Resistor; Manufacturer: FOJAN; Manufacturer Part Number: FRC1206F1500TS; Voltage Rating: 200V; Supplier: LCSC; Supplier Part Number: C2933598; Resistance: 150R; Tolerance: 1%; Power: 250mW
footprint RES SMD 1206
pins: 1, 2

## RES 1206 150R 5%
designator C?, comment 150R
150R 5% 250mW 1206 Thick Film Resistor; Manufacturer: FOJAN; Manufacturer Part Number: FRD1206J151 TS; Voltage Rating: 200V; Supplier: LCSC; Supplier Part Number: C2934199; Resistance: 150R; Tolerance: 5%; Power: 250mW
footprint RES SMD 1206
pins: 1, 2

## RES 1206 154R 1%
designator C?, comment 154R
154R 1% 250mW 1206 Thick Film Resistor; Manufacturer: FOJAN; Manufacturer Part Number: FRC1206F1540TS; Voltage Rating: 200V; Supplier: LCSC; Supplier Part Number: C5126138; Resistance: 154R; Tolerance: 1%; Power: 250mW
footprint RES SMD 1206
pins: 1, 2

## RES 1206 158R 1%
designator C?, comment 158R
158R 1% 250mW 1206 Thick Film Resistor; Manufacturer: FOJAN; Manufacturer Part Number: FRC1206F1580TS; Voltage Rating: 200V; Supplier: LCSC; Supplier Part Number: C5126109; Resistance: 158R; Tolerance: 1%; Power: 250mW
footprint RES SMD 1206
pins: 1, 2

## RES 1206 160k 5%
designator C?, comment 160k
160kR 5% 250mW 1206 Thick Film Resistor; Manufacturer: FOJAN; Manufacturer Part Number: FRC1206J164 TS; Voltage Rating: 200V; Supplier: LCSC; Supplier Part Number: C2933783; Resistance: 160k; Tolerance: 5%; Power: 250mW
footprint RES SMD 1206
pins: 1, 2

## RES 1206 160mR 1%
designator C?, comment 160mR
160mR 1% 250mW 1206 Thick Film Resistor; Manufacturer: FOJAN; Manufacturer Part Number: FRL1206FR160TS; Voltage Rating: 500V; Supplier: LCSC; Supplier Part Number: C2934290; Resistance: 160mR; Tolerance: 1%; Power: 250mW
footprint RES SMD 1206
pins: 1, 2

## RES 1206 160mR 5%
designator C?, comment 160mR
160mR 5% 250mW 1206 Thick Film Resistor; Manufacturer: FOJAN; Manufacturer Part Number: FRL1206JR160TS; Voltage Rating: 500V; Supplier: LCSC; Supplier Part Number: C2934299; Resistance: 160mR; Tolerance: 5%; Power: 250mW
footprint RES SMD 1206
pins: 1, 2

## RES 1206 160R 1%
designator C?, comment 160R
160R 1% 250mW 1206 Thick Film Resistor; Manufacturer: FOJAN; Manufacturer Part Number: FRC1206F1600TS; Voltage Rating: 200V; Supplier: LCSC; Supplier Part Number: C2933602; Resistance: 160R; Tolerance: 1%; Power: 250mW
footprint RES SMD 1206
pins: 1, 2

## RES 1206 160R 5%
designator C?, comment 160R
160R 5% 250mW 1206 Thick Film Resistor; Manufacturer: FOJAN; Manufacturer Part Number: FRC1206J161 TSD; Voltage Rating: 200V; Supplier: LCSC; Supplier Part Number: C2907435; Resistance: 160R; Tolerance: 5%; Power: 250mW
footprint RES SMD 1206
pins: 1, 2

## RES 1206 165k 1%
designator C?, comment 165k
165kR 1% 250mW 1206 Thick Film Resistor; Manufacturer: FOJAN; Manufacturer Part Number: FRC1206F1653TS; Voltage Rating: 200V; Supplier: LCSC; Supplier Part Number: C2999515; Resistance: 165k; Tolerance: 1%; Power: 250mW
footprint RES SMD 1206
pins: 1, 2

## RES 1206 165R 1%
designator C?, comment 165R
165R 1% 250mW 1206 Thick Film Resistor; Manufacturer: FOJAN; Manufacturer Part Number: FRC1206F1650TS; Voltage Rating: 200V; Supplier: LCSC; Supplier Part Number: C2933606; Resistance: 165R; Tolerance: 1%; Power: 250mW
footprint RES SMD 1206
pins: 1, 2

## RES 1206 169k 1%
designator C?, comment 169k
169kR 1% 250mW 1206 Thick Film Resistor; Manufacturer: FOJAN; Manufacturer Part Number: FRC1206F1693TS; Voltage Rating: 200V; Supplier: LCSC; Supplier Part Number: C2933609; Resistance: 169k; Tolerance: 1%; Power: 250mW
footprint RES SMD 1206
pins: 1, 2

## RES 1206 169R 1%
designator C?, comment 169R
169R 1% 250mW 1206 Thick Film Resistor; Manufacturer: FOJAN; Manufacturer Part Number: FRC1206F1690TS; Voltage Rating: 200V; Supplier: LCSC; Supplier Part Number: C5126079; Resistance: 169R; Tolerance: 1%; Power: 250mW
footprint RES SMD 1206
pins: 1, 2

## RES 1206 170mR 5%
designator C?, comment 170mR
170mR 5% 250mW 1206 Thick Film Resistor; Manufacturer: FOJAN; Manufacturer Part Number: FRL1206JR170TS; Voltage Rating: 500V; Supplier: LCSC; Supplier Part Number: C5713396; Resistance: 170mR; Tolerance: 5%; Power: 250mW
footprint RES SMD 1206
pins: 1, 2

## RES 1206 174R 1%
designator C?, comment 174R
174R 1% 250mW 1206 Thick Film Resistor; Manufacturer: FOJAN; Manufacturer Part Number: FRC1206F1740TS; Voltage Rating: 200V; Supplier: LCSC; Supplier Part Number: C2999524; Resistance: 174R; Tolerance: 1%; Power: 250mW
footprint RES SMD 1206
pins: 1, 2

## RES 1206 178R 1%
designator C?, comment 178R
178R 250mW Thick Film Resistor 1% 100ppm/â„ƒ 1206 Chip Resistor - Surface Mount RoHS; Manufacturer: FOJAN; Manufacturer Part Number: FRC1206F1780TS; Supplier: LCSC; Supplier Part Number: C7467468; Resistance: 178R; Tolerance: 1%; Power: 250mW
footprint RES SMD 1206
pins: 1, 2

## RES 1206 180k 1%
designator C?, comment 180k
180kR 1% 250mW 1206 Thick Film Resistor; Manufacturer: FOJAN; Manufacturer Part Number: FRC1206F1803TS; Voltage Rating: 200V; Supplier: LCSC; Supplier Part Number: C2930410; Resistance: 180k; Tolerance: 1%; Power: 250mW
footprint RES SMD 1206
pins: 1, 2

## RES 1206 180k 5%
designator C?, comment 180k
180kR 5% 250mW 1206 Thick Film Resistor; Manufacturer: FOJAN; Manufacturer Part Number: FRC1206J184 TS; Voltage Rating: 200V; Supplier: LCSC; Supplier Part Number: C2907436; Resistance: 180k; Tolerance: 5%; Power: 250mW
footprint RES SMD 1206
pins: 1, 2

## RES 1206 180mR 1%
designator C?, comment 180mR
180mR 1% 250mW 1206 Thick Film Resistor; Manufacturer: FOJAN; Manufacturer Part Number: FRL1206FR180TS; Voltage Rating: 500V; Supplier: LCSC; Supplier Part Number: C2960665; Resistance: 180mR; Tolerance: 1%; Power: 250mW
footprint RES SMD 1206
pins: 1, 2

## RES 1206 180mR 5%
designator C?, comment 180mR
180mR 5% 250mW 1206 Thick Film Resistor; Manufacturer: FOJAN; Manufacturer Part Number: FRL1206JR180TS; Voltage Rating: 500V; Supplier: LCSC; Supplier Part Number: C2934300; Resistance: 180mR; Tolerance: 5%; Power: 250mW
footprint RES SMD 1206
pins: 1, 2

## RES 1206 180R 5%
designator C?, comment 180R
180R 5% 250mW 1206 Thick Film Resistor; Manufacturer: FOJAN; Manufacturer Part Number: FRD1206J181 TS; Voltage Rating: 200V; Supplier: LCSC; Supplier Part Number: C2934205; Resistance: 180R; Tolerance: 5%; Power: 250mW
footprint RES SMD 1206
pins: 1, 2

## RES 1206 182k 1%
designator C?, comment 182k
182kR 1% 250mW 1206 Thick Film Resistor; Manufacturer: FOJAN; Manufacturer Part Number: FRC1206F1823TS; Voltage Rating: 200V; Supplier: LCSC; Supplier Part Number: C5204019; Resistance: 182k; Tolerance: 1%; Power: 250mW
footprint RES SMD 1206
pins: 1, 2

## RES 1206 187k 1%
designator C?, comment 187k
250mW 187kR 200V Thick Film Resistor 1% 1206 Chip Resistor - Surface Mount RoHS; Manufacturer: FOJAN; Manufacturer Part Number: FRC1206F1873TS; Supplier: LCSC; Supplier Part Number: C51048299; Resistance: 187k; Tolerance: 1%; Voltage Rating: 200V; Power: 250mW
footprint RES SMD 1206
pins: 1, 2

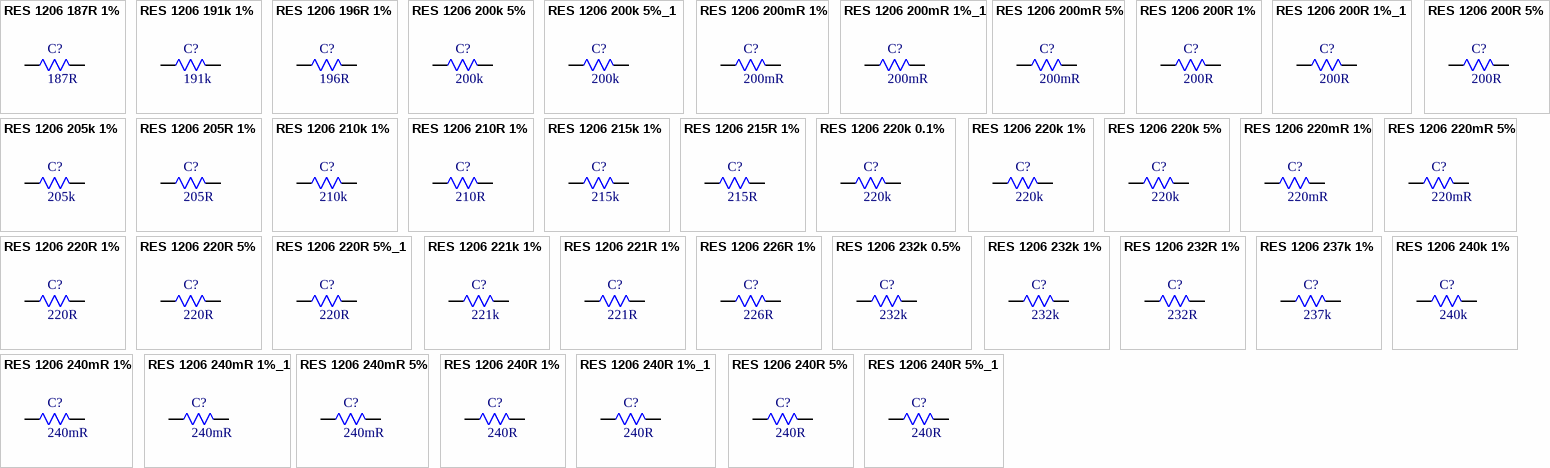
[diagram p75: symbols RES 1206 187R 1% to RES 1206 240R 5%_1]

## RES 1206 187R 1%
designator C?, comment 187R
187R 1% 250mW 1206 Thick Film Resistor; Manufacturer: FOJAN; Manufacturer Part Number: FRC1206F1870TS; Voltage Rating: 200V; Supplier: LCSC; Supplier Part Number: C2933616; Resistance: 187R; Tolerance: 1%; Power: 250mW
footprint RES SMD 1206
pins: 1, 2

## RES 1206 191k 1%
designator C?, comment 191k
191kR 1% 250mW 1206 Thick Film Resistor; Manufacturer: FOJAN; Manufacturer Part Number: FRC1206F1913TS; Voltage Rating: 200V; Supplier: LCSC; Supplier Part Number: C2930412; Resistance: 191k; Tolerance: 1%; Power: 250mW
footprint RES SMD 1206
pins: 1, 2

## RES 1206 196R 1%
designator C?, comment 196R
196R 1% 250mW 1206 Thick Film Resistor; Manufacturer: FOJAN; Manufacturer Part Number: FRC1206F1960TS; Voltage Rating: 200V; Supplier: LCSC; Supplier Part Number: C2933619; Resistance: 196R; Tolerance: 1%; Power: 250mW
footprint RES SMD 1206
pins: 1, 2

## RES 1206 200k 5%
designator C?, comment 200k
200kR 5% 250mW 1206 Thick Film Resistor; Manufacturer: FOJAN; Manufacturer Part Number: FRC1206J204 TS; Voltage Rating: 200V; Supplier: LCSC; Supplier Part Number: C2907451; Resistance: 200k; Tolerance: 5%; Power: 250mW
footprint RES SMD 1206
pins: 1, 2

## RES 1206 200k 5%_1
designator C?, comment 200k
200kR 5% 250mW 1206 Thick Film Resistor; Manufacturer: FOJAN; Manufacturer Part Number: FRD1206J204 TS; Voltage Rating: 200V; Supplier: LCSC; Supplier Part Number: C2934210; Resistance: 200k; Tolerance: 5%; Power: 250mW
footprint RES SMD 1206
pins: 1, 2

## RES 1206 200mR 1%
designator C?, comment 200mR
200mR 1% 250mW 1206 Thick Film Resistor; Manufacturer: FOJAN; Manufacturer Part Number: FRL1206FR200TS; Voltage Rating: 500V; Supplier: LCSC; Supplier Part Number: C2907350; Resistance: 200mR; Tolerance: 1%; Power: 250mW
footprint RES SMD 1206
pins: 1, 2

## RES 1206 200mR 1%_1
designator C?, comment 200mR
200mR 1% 500mW 1206 Thick Film Resistor; Manufacturer: FOJAN; Manufacturer Part Number: FPL1206FR200TS; Supplier: LCSC; Supplier Part Number: C7467885; Resistance: 200mR; Tolerance: 1%; Power: 500mW
footprint RES SMD 1206
pins: 1, 2

## RES 1206 200mR 5%
designator C?, comment 200mR
200mR 5% 250mW 1206 Thick Film Resistor; Manufacturer: FOJAN; Manufacturer Part Number: FRL1206JR200TS; Voltage Rating: 500V; Supplier: LCSC; Supplier Part Number: C2907396; Resistance: 200mR; Tolerance: 5%; Power: 250mW
footprint RES SMD 1206
pins: 1, 2

## RES 1206 200R 1%
designator C?, comment 200R
200R 1% 250mW 1206 Thick Film Resistor; Manufacturer: FOJAN; Manufacturer Part Number: FRC1206F2000TS; Voltage Rating: 200V; Supplier: LCSC; Supplier Part Number: C2930418; Resistance: 200R; Tolerance: 1%; Power: 250mW
footprint RES SMD 1206
pins: 1, 2

## RES 1206 200R 1%_1
designator C?, comment 200R
250mW 200R 200V Thick Film Resistor 100ppm/â„ƒ 1% 1206 Chip Resistor - Surface Mount RoHS; Manufacturer: FOJAN; Manufacturer Part Number: FRQ1206F2000TS; Supplier: LCSC; Supplier Part Number: C18222284; Resistance: 200R; Tolerance: 1%; Voltage Rating: 200V; Power: 250mW
footprint RES SMD 1206
pins: 1, 2

## RES 1206 200R 5%
designator C?, comment 200R
200R 5% 250mW 1206 Thick Film Resistor; Manufacturer: FOJAN; Manufacturer Part Number: FRD1206J201 TS; Voltage Rating: 200V; Supplier: LCSC; Supplier Part Number: C2934207; Resistance: 200R; Tolerance: 5%; Power: 250mW
footprint RES SMD 1206
pins: 1, 2

## RES 1206 205k 1%
designator C?, comment 205k
205kR 1% 250mW 1206 Thick Film Resistor; Manufacturer: FOJAN; Manufacturer Part Number: FRC1206F2053TS; Voltage Rating: 200V; Supplier: LCSC; Supplier Part Number: C42372175; Resistance: 205k; Tolerance: 1%; Power: 250mW
footprint RES SMD 1206
pins: 1, 2

## RES 1206 205R 1%
designator C?, comment 205R
205R 1% 250mW 1206 Thick Film Resistor; Manufacturer: FOJAN; Manufacturer Part Number: FRC1206F2050TS; Voltage Rating: 200V; Supplier: LCSC; Supplier Part Number: C3013247; Resistance: 205R; Tolerance: 1%; Power: 250mW
footprint RES SMD 1206
pins: 1, 2

## RES 1206 210k 1%
designator C?, comment 210k
210kR 1% 250mW 1206 Thick Film Resistor; Manufacturer: FOJAN; Manufacturer Part Number: FRC1206F2103TS; Voltage Rating: 200V; Supplier: LCSC; Supplier Part Number: C2974048; Resistance: 210k; Tolerance: 1%; Power: 250mW
footprint RES SMD 1206
pins: 1, 2

## RES 1206 210R 1%
designator C?, comment 210R
210R 1% 250mW 1206 Thick Film Resistor; Manufacturer: FOJAN; Manufacturer Part Number: FRC1206F2100TS; Voltage Rating: 200V; Supplier: LCSC; Supplier Part Number: C2933639; Resistance: 210R; Tolerance: 1%; Power: 250mW
footprint RES SMD 1206
pins: 1, 2

## RES 1206 215k 1%
designator C?, comment 215k
250mW 215kR 200V Thick Film Resistor 100ppm/â„ƒ 1% 1206 Chip Resistor - Surface Mount RoHS; Manufacturer: FOJAN; Manufacturer Part Number: FRC1206F2153TS; Supplier: LCSC; Supplier Part Number: C48533678; Resistance: 215k; Tolerance: 1%; Voltage Rating: 200V; Power: 250mW
footprint RES SMD 1206
pins: 1, 2

## RES 1206 215R 1%
designator C?, comment 215R
215R 1% 250mW 1206 Thick Film Resistor; Manufacturer: FOJAN; Manufacturer Part Number: FRC1206F2150TS; Voltage Rating: 200V; Supplier: LCSC; Supplier Part Number: C2933640; Resistance: 215R; Tolerance: 1%; Power: 250mW
footprint RES SMD 1206
pins: 1, 2

## RES 1206 220k 0.1%
designator C?, comment 220k
250mW 220kR 200V Thick Film Resistor 0.1% 1206 Chip Resistor - Surface Mount RoHS; Manufacturer: FOJAN; Manufacturer Part Number: FRT1206B2203TSX; Supplier: LCSC; Supplier Part Number: C52033518; Resistance: 220k; Tolerance: 0.1%; Voltage Rating: 200V; Power: 250mW
footprint RES SMD 1206
pins: 1, 2

## RES 1206 220k 1%
designator C?, comment 220k
220kR 1% 250mW 1206 Thick Film Resistor; Manufacturer: FOJAN; Manufacturer Part Number: FRC1206F2203TS; Voltage Rating: 200V; Supplier: LCSC; Supplier Part Number: C2933643; Resistance: 220k; Tolerance: 1%; Power: 250mW
footprint RES SMD 1206
pins: 1, 2

## RES 1206 220k 5%
designator C?, comment 220k
220kR 5% 250mW 1206 Thick Film Resistor; Manufacturer: FOJAN; Manufacturer Part Number: FRC1206J224 TS; Voltage Rating: 200V; Supplier: LCSC; Supplier Part Number: C2907455; Resistance: 220k; Tolerance: 5%; Power: 250mW
footprint RES SMD 1206
pins: 1, 2

## RES 1206 220mR 1%
designator C?, comment 220mR
220mR 1% 250mW 1206 Thick Film Resistor; Manufacturer: FOJAN; Manufacturer Part Number: FRL1206FR220TS; Voltage Rating: 500V; Supplier: LCSC; Supplier Part Number: C2907349; Resistance: 220mR; Tolerance: 1%; Power: 250mW
footprint RES SMD 1206
pins: 1, 2

## RES 1206 220mR 5%
designator C?, comment 220mR
220mR 5% 250mW 1206 Thick Film Resistor; Manufacturer: FOJAN; Manufacturer Part Number: FRL1206JR220TS; Voltage Rating: 500V; Supplier: LCSC; Supplier Part Number: C2907395; Resistance: 220mR; Tolerance: 5%; Power: 250mW
footprint RES SMD 1206
pins: 1, 2

## RES 1206 220R 1%
designator C?, comment 220R
220R 1% 250mW 1206 Thick Film Resistor; Manufacturer: FOJAN; Manufacturer Part Number: FRC1206F2200TS; Voltage Rating: 200V; Supplier: LCSC; Supplier Part Number: C2933642; Resistance: 220R; Tolerance: 1%; Power: 250mW
footprint RES SMD 1206
pins: 1, 2

## RES 1206 220R 5%
designator C?, comment 220R
220R 5% 250mW 1206 Thick Film Resistor; Manufacturer: FOJAN; Manufacturer Part Number: FRC1206J221 TS; Voltage Rating: 200V; Supplier: LCSC; Supplier Part Number: C2933785; Resistance: 220R; Tolerance: 5%; Power: 250mW
footprint RES SMD 1206
pins: 1, 2

## RES 1206 220R 5%_1
designator C?, comment 220R
220R 5% 250mW 1206 Thick Film Resistor; Manufacturer: FOJAN; Manufacturer Part Number: FRD1206J221 TS; Voltage Rating: 200V; Supplier: LCSC; Supplier Part Number: C2934212; Resistance: 220R; Tolerance: 5%; Power: 250mW
footprint RES SMD 1206
pins: 1, 2

## RES 1206 221k 1%
designator C?, comment 221k
221kR 1% 250mW 1206 Thick Film Resistor; Manufacturer: FOJAN; Manufacturer Part Number: FRC1206F2213TS; Voltage Rating: 200V; Supplier: LCSC; Supplier Part Number: C2933646; Resistance: 221k; Tolerance: 1%; Power: 250mW
footprint RES SMD 1206
pins: 1, 2

## RES 1206 221R 1%
designator C?, comment 221R
221R 1% 250mW 1206 Thick Film Resistor; Manufacturer: FOJAN; Manufacturer Part Number: FRC1206F2210TS; Voltage Rating: 200V; Supplier: LCSC; Supplier Part Number: C2974049; Resistance: 221R; Tolerance: 1%; Power: 250mW
footprint RES SMD 1206
pins: 1, 2

## RES 1206 226R 1%
designator C?, comment 226R
226R 1% 250mW 1206 Thick Film Resistor; Manufacturer: FOJAN; Manufacturer Part Number: FRC1206F2260TS; Voltage Rating: 200V; Supplier: LCSC; Supplier Part Number: C3000745; Resistance: 226R; Tolerance: 1%; Power: 250mW
footprint RES SMD 1206
pins: 1, 2

## RES 1206 232k 0.5%
designator C?, comment 232k
232kR 250mW Thick Film Resistor 100ppm/â„ƒ 0.5% 1206 Chip Resistor - Surface Mount RoHS; Manufacturer: FOJAN; Manufacturer Part Number: FRH1206D2323TS; Supplier: LCSC; Supplier Part Number: C22375091; Resistance: 232k; Tolerance: 0.5%; Power: 250mW
footprint RES SMD 1206
pins: 1, 2

## RES 1206 232k 1%
designator C?, comment 232k
232kR 1% 250mW 1206 Thick Film Resistor; Manufacturer: FOJAN; Manufacturer Part Number: FRC1206F2323TS; Voltage Rating: 200V; Supplier: LCSC; Supplier Part Number: C3000527; Resistance: 232k; Tolerance: 1%; Power: 250mW
footprint RES SMD 1206
pins: 1, 2

## RES 1206 232R 1%
designator C?, comment 232R
232R 1% 250mW 1206 Thick Film Resistor; Manufacturer: FOJAN; Manufacturer Part Number: FRC1206F2320TS; Voltage Rating: 200V; Supplier: LCSC; Supplier Part Number: C5126059; Resistance: 232R; Tolerance: 1%; Power: 250mW
footprint RES SMD 1206
pins: 1, 2

## RES 1206 237k 1%
designator C?, comment 237k
237kR 1% 250mW 1206 Thick Film Resistor; Manufacturer: FOJAN; Manufacturer Part Number: FRC1206F2373TS; Voltage Rating: 200V; Supplier: LCSC; Supplier Part Number: C5126080; Resistance: 237k; Tolerance: 1%; Power: 250mW
footprint RES SMD 1206
pins: 1, 2

## RES 1206 240k 1%
designator C?, comment 240k
240kR 1% 250mW 1206 Thick Film Resistor; Manufacturer: FOJAN; Manufacturer Part Number: FRC1206F2403TS; Voltage Rating: 200V; Supplier: LCSC; Supplier Part Number: C2907378; Resistance: 240k; Tolerance: 1%; Power: 250mW
footprint RES SMD 1206
pins: 1, 2

## RES 1206 240mR 1%
designator C?, comment 240mR
240mR 1% 500mW 1206 Thick Film Resistor; Manufacturer: FOJAN; Manufacturer Part Number: FPL1206FR240TS; Supplier: LCSC; Supplier Part Number: C7467819; Resistance: 240mR; Tolerance: 1%; Power: 500mW
footprint RES SMD 1206
pins: 1, 2

## RES 1206 240mR 1%_1
designator C?, comment 240mR
240mR 1% 250mW 1206 Thick Film Resistor; Manufacturer: FOJAN; Manufacturer Part Number: FRL1206FR240TS; Voltage Rating: 500V; Supplier: LCSC; Supplier Part Number: C2934291; Resistance: 240mR; Tolerance: 1%; Power: 250mW
footprint RES SMD 1206
pins: 1, 2

## RES 1206 240mR 5%
designator C?, comment 240mR
240mR 5% 250mW 1206 Thick Film Resistor; Manufacturer: FOJAN; Manufacturer Part Number: FRL1206JR240TS; Voltage Rating: 500V; Supplier: LCSC; Supplier Part Number: C2934301; Resistance: 240mR; Tolerance: 5%; Power: 250mW
footprint RES SMD 1206
pins: 1, 2

## RES 1206 240R 1%
designator C?, comment 240R
240R 1% 250mW 1206 Thick Film Resistor; Manufacturer: FOJAN; Manufacturer Part Number: FRC1206F2400TS; Voltage Rating: 200V; Supplier: LCSC; Supplier Part Number: C2933649; Resistance: 240R; Tolerance: 1%; Power: 250mW
footprint RES SMD 1206
pins: 1, 2

## RES 1206 240R 1%_1
designator C?, comment 240R
500mW 240R 200V Thick Film Resistor 200ppm/â„ƒ 1% 1206 Chip Resistor - Surface Mount RoHS; Manufacturer: FOJAN; Manufacturer Part Number: FRP1206F2400TS; Supplier: LCSC; Supplier Part Number: C49196872; Resistance: 240R; Tolerance: 1%; Voltage Rating: 200V; Power: 500mW
footprint RES SMD 1206
pins: 1, 2